# Altium schematic symbol library NC7SZ125.SchLib: 1 symbol
Pins are listed as number, name and electrical type; pins without a type are passive.

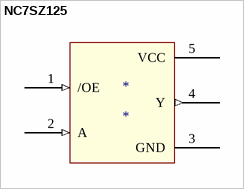
[diagram p0: symbol NC7SZ125]

## NC7SZ125
designator *
footprint SOT23-5AL (SOT23, 5-Leads, Body 2.9x1.6mm, Pitch 0.95mm, Lead Span 2.8mm, IPC High Density)
pins: 1 /OE (in), 2 A (in), 3 GND, 4 Y (out), 5 VCC